# Altium footprint library IND-SMD_L11.5-W10.0_SMMS1040.PcbLib: 1 footprints
Each footprint in its own frame and in the unit in brackets; x right, y up, seen from the top. Pads: shape width x height; smd on the part's side, far side on the other; paste and mask are expansions set on the pad; w line width, h text height; cw(c..) or ccw(c..) is an arc to the next point about the centre after c.
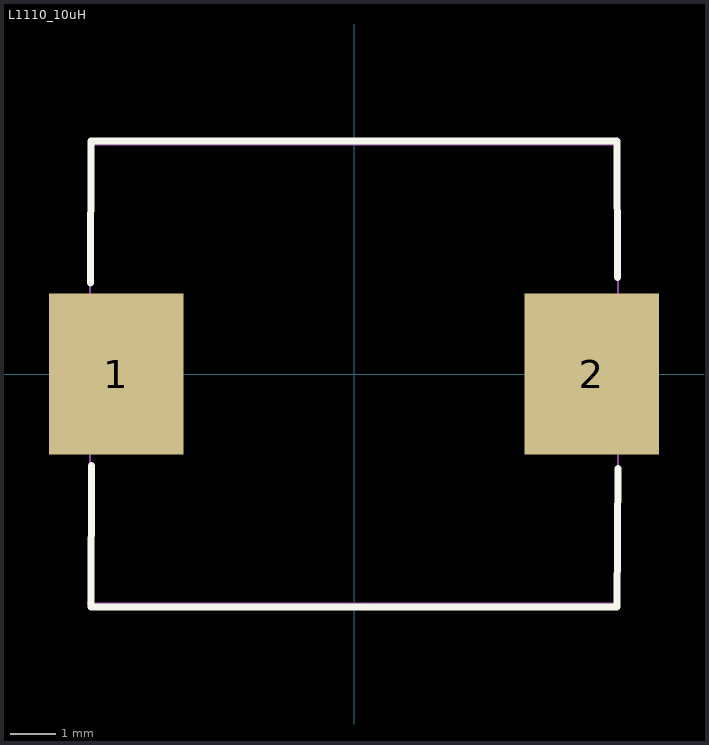
[diagram p0: the footprint, top view; thin cyan lines are the x and y axes]

## L1110_10uH [mm] "IND-SMD_L11.5-W10.0_SMMS1040"
pads (2):
  rect 2.924x3.5 smd: 1(-5.18,0) 2(5.18,0)
Top Overlay:
  lines w0.152: -5.74,1.981 -5.726,5.076 5.726,5.076 5.736,2.102 ; -5.713,-1.993 -5.726,-5.076 5.726,-5.076 5.754,-2.055
Mechanical 15:
  region: 5.75,-1.5 3.75,-1.5 3.75,1.5 5.75,1.5
  region: -3.75,-1.5 -5.75,-1.5 -5.75,1.5 -3.75,1.5
  region: -5.69,-5 -5.691,-4.976 -5.726,-4.942 -5.774,-4.942 -5.809,-4.976 -5.81,-5 -5.809,-5.024 -5.774,-5.058 -5.726,-5.058 -5.691,-5.024 -5.69,-5
  lines w0.051: -5.75,-5 5.75,-5 5.75,5 -5.75,5 -5.75,-5